# Altium schematic symbol library PCB_Project.SchLib: 14 symbols
Pins are listed as number, name and electrical type; pins without a type are passive.

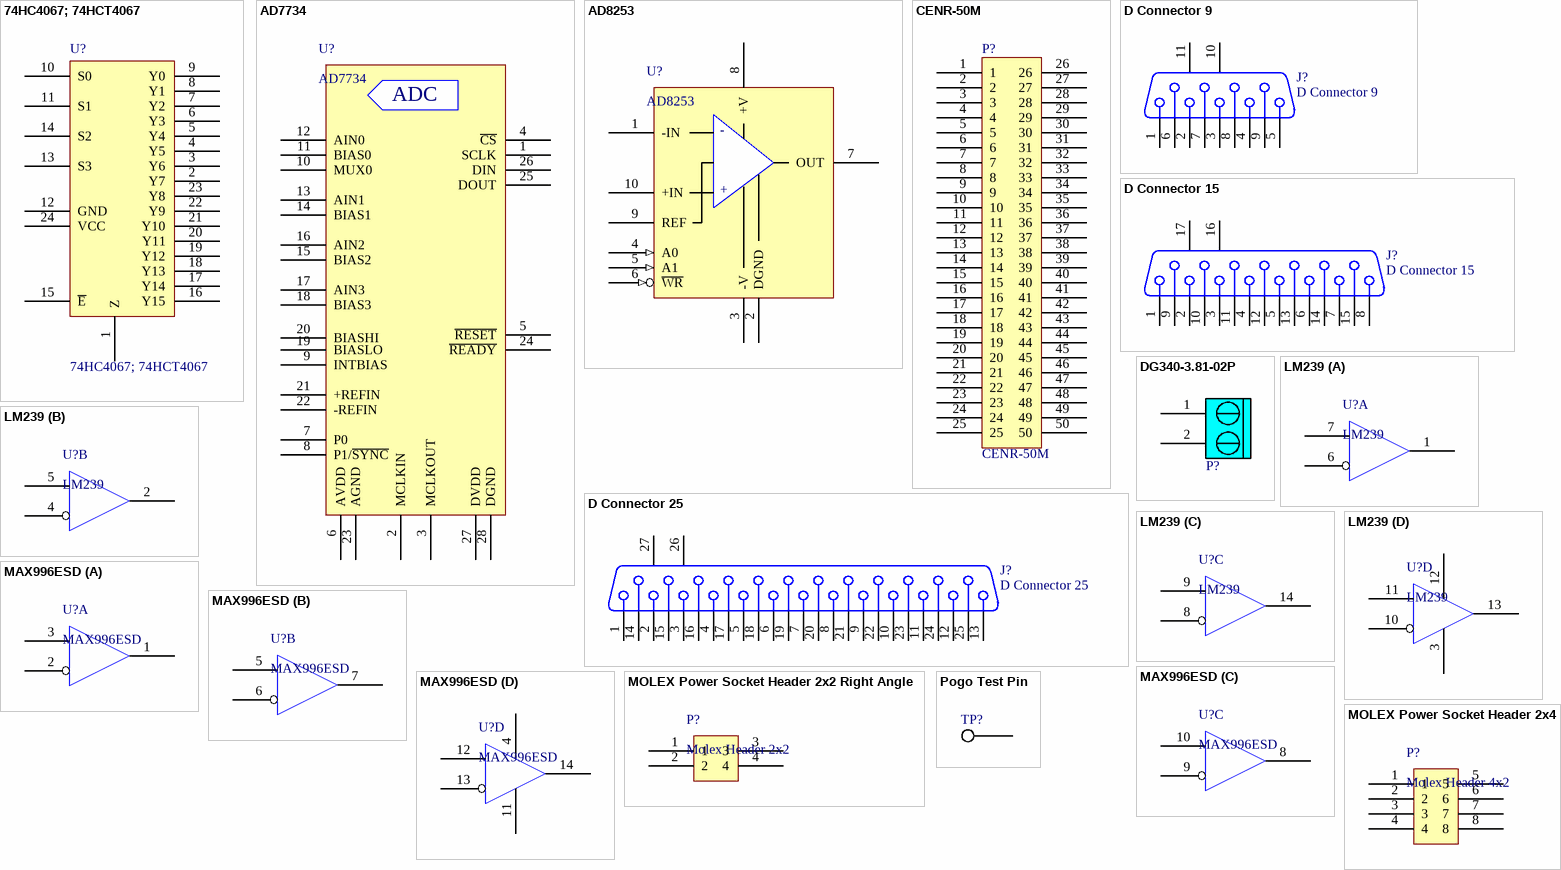
[diagram p0: symbols 74HC4067; 74HCT4067 to Pogo Test Pin]

## 74HC4067; 74HCT4067
designator U?
16-channel analog multiplexer/demultiplexer
footprint SO24 (SOT137-1, 24-Leads, Body 15,40x7,50mm, Pitch 1,27mm, IPC Medium Density)
pins: 1 Z, 2 Y7, 3 Y6, 4 Y5, 5 Y4, 6 Y3, 7 Y2, 8 Y1, 9 Y0, 10 S0, 11 S1, 12 GND, 13 S3, 14 S2, 15 ~{E}, 16 Y15, 17 Y14, 18 Y13, 19 Y12, 20 Y11, 21 Y10, 22 Y9, 23 Y8, 24 VCC

## AD7734
designator U?
4-Channel, ±10 V Input Range, High  Throughput, 24-Bit Sigma-Delta ADC
footprint TSSOP-28 (TSOP, 28-Leads, Body 9.70x4.40mm, Pitch 0.65mm, IPC High Density)
pins: 1 SCLK, 2 MCLKIN, 3 MCLKOUT, 4 ~{CS}, 5 ~{RESET}, 6 AVDD, 7 P0, 8 P1/~{SYNC}, 9 INTBIAS, 10 MUX0, 11 BIAS0, 12 AIN0, 13 AIN1, 14 BIAS1, 15 BIAS2, 16 AIN2, 17 AIN3, 18 BIAS3, 19 BIASLO, 20 BIASHI, 21 +REFIN, 22 -REFIN, 23 AGND, 24 ~{READY}, 25 DOUT, 26 DIN, 27 DVDD, 28 DGND
text: ADC

## AD8253
designator U?
Programmable Gain Instrumentation Amplifier 10MHz, 20 V/us, G=1, 10, 100, 1000
footprint MSOP-10 (MSOP-10, 10-Leads, Body 3.00x3.00mm, Pitch 0.50mm, IPC High Density)
pins: 1 -IN "True differential input", 2 DGND (power), 3 -V (power), 4 A0 (in) "True differential input", 5 A1 (in) "True differential input", 6 ~{WR} (in) "True differential input", 7 OUT "True differential input", 8 +V (power), 9 REF "True differential input", 10 +IN "True differential input"
text: -; +

## CENR-50M
designator P?
footprint CENR-50M (Centronic 50pin, PCB mount, right angle)
pins: 1, 2, 3, 4, 5, 6, 7, 8, 9, 10, 11, 12, 13, 14, 15, 16, 17, 18, 19, 20, 21, 22, 23, 24, 25, 26, 27, 28, 29, 30, 31, 32, 33, 34, 35, 36, 37, 38, 39, 40, 41, 42, 43, 44, 45, 46, 47, 48, 49, 50

## D Connector 9
designator J?
Receptacle Assembly, 9 Position, Right Angle; PackageDocument: O; Positions: 9; Published: 15-Jun-2001; LatestRevisionDate: 17-Jul-2002; LatestRevisionNote: Re-released for DXP Platform.; DatasheetDocument: 1-Sep-1999; PackageReference: 788750; Publisher: Altium Limited; Orientation: Right Angle; Gender: Receptacle
signal-integrity model Connector
footprint DSUB1.385-2H9F (Connector; D Subminiature; 9 Position; Right Angle; Pitch 1.385 mm)
footprint DSUB1.385-2H9M (Connector; D Subminiature; 9 Position; Right Angle; Pitch 1.385 mm)
pins: 1, 2, 3, 4, 5, 6, 7, 8, 9, 10 MH1, 11 MH2

## D Connector 15
designator J?
Receptacle Assembly, 15 Position, Right Angle; PackageDocument: O; Positions: 15; Published: 15-Jun-2001; LatestRevisionDate: 17-Jul-2002; LatestRevisionNote: Re-released for DXP Platform.; DatasheetDocument: 1-Sep-99; PackageReference: 788757; Publisher: Altium Limited; Orientation: Right Angle; Gender: Receptacle
signal-integrity model Connector
footprint DSUB1.385-2H15F (Connector; D Subminiature; 15 Position; Right Angle; Pitch 1.385 mm)
footprint DSUB1.385-2H15M (Connector; D Subminiature; 15 Position; Right Angle; Pitch 1.385 mm)
pins: 1, 2, 3, 4, 5, 6, 7, 8, 9, 10, 11, 12, 13, 14, 15, 16 MH1, 17 MH2

## D Connector 25
designator J?
Receptacle Assembly, 25 Position, Right Angle; PackageDocument: U; Positions: 25; Published: 15-Jun-2001; LatestRevisionDate: 17-Jul-2002; LatestRevisionNote: Re-released for DXP Platform.; DatasheetDocument: 19-Mar-1999; PackageReference: 787202; Publisher: Altium Limited; Orientation: Right Angle; Gender: Receptacle
signal-integrity model Connector
footprint DSUB1.385-2H25A-F (Connector; D Subminiature; 25 Position; Right Angle; Pitch 1.385 mm)
footprint DSUB1.385-2H25A-M (Connector; D Subminiature; 25 Position; Right Angle; Pitch 1.385 mm)
pins: 1, 2, 3, 4, 5, 6, 7, 8, 9, 10, 11, 12, 13, 14, 15, 16, 17, 18, 19, 20, 21, 22, 23, 24, 25, 26 MH1, 27 MH2

## DG340-3.81-02P
designator P?, comment DG340-3.81  (value not drawn)
Terminal block
footprint DG340-3.81-02P-00A(H) (Terminal block)
footprint DG340-5.08 (Bread board)
pins: 1, 2

## LM239
designator U?
Quad Differential Comparators
footprint SOIC-14 (SOIC, 14-Leads, Body 8.61x3.90mm, Pitch 1.27mm, IPC Medium Density)
part A pins: 1 OUT1, 6 -IN1, 7 +IN1
part B pins: 2 OUT2, 4 -IN2, 5 +IN2
part C pins: 8 -IN3, 9 +IN3, 14 OUT3
part D pins: 3 VCC (power), 10 -IN4, 11 +IN4, 12 GND (power), 13 OUT3

## MAX996ESD
designator U?
High-Speed, Micropower, Low-Voltage,  Rail-to-Rail I/O Comparators
footprint SOIC-14 (SOIC, 14-Leads, Body 8.61x3.90mm, Pitch 1.27mm, IPC Medium Density)
part A pins: 1 OUT1, 2 -IN1, 3 +IN1
part B pins: 5 +IN1, 6 -IN1, 7 OUT1
part C pins: 8 OUT1, 9 -IN1, 10 +IN1
part D pins: 4 VCC, 11 VSS, 12 +IN1, 13 -IN1, 14 OUT1

## MOLEX Power Socket Header 2x2 Right Angle
designator P?, comment Molex Header 2x2
Power Header 2x2, Right Angle
footprint MF-4FMA (Molex Power Socket Header 2x2pin Right Angle)
pins: 1, 2, 3, 4

## MOLEX Power Socket Header 2x4
designator P?, comment Molex Header 4x2
Power Header 4x2, Right Angle
footprint MF-8FMA (Molex Power Socket Header 2x4pin Right Angle)
pins: 1, 2, 3, 4, 5, 6, 7, 8

## Pogo Test Pin
designator TP?, comment Test point  (value not drawn)
pins: 1

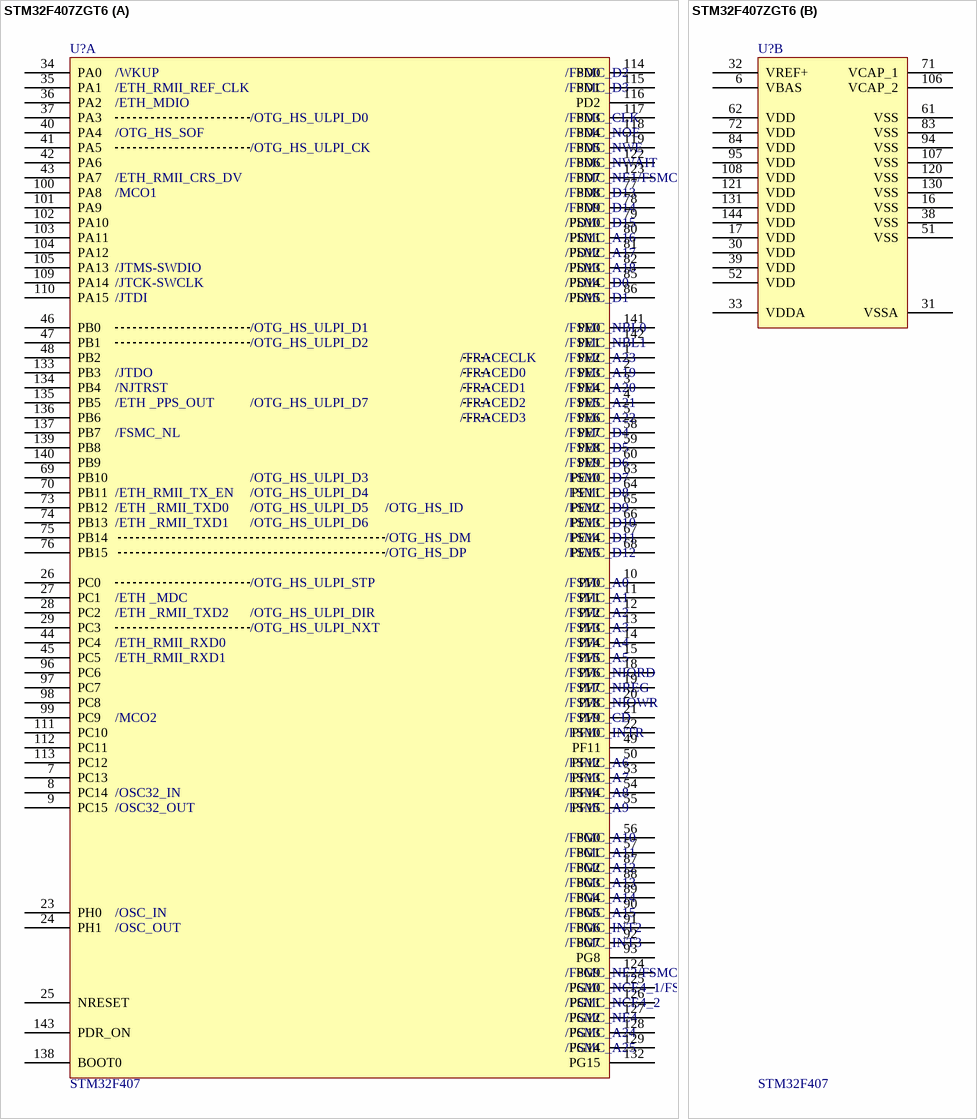
[diagram p1: symbol STM32F407ZGT6]

## STM32F407ZGT6
designator U?, comment STM32F407
ST Microcontroller ARM 32-bit Cortex M4
footprint LQFP144 (TSQFP, 144-Leads, Body 20.00x20.00mm, Pitch 0.50mm, IPC Medium Density)
part A pins: 1 PE2, 2 PE3, 3 PE4, 4 PE5, 5 PE6, 7 PC13, 8 PC14, 9 PC15, 10 PF0, 11 PF1, 12 PF2, 13 PF3, 14 PF4, 15 PF5, 18 PF6, 19 PF7, 20 PF8, 21 PF9, 22 PF10, 23 PH0, 24 PH1, 25 NRESET, 26 PC0, 27 PC1, 28 PC2, 29 PC3, 34 PA0, 35 PA1, 36 PA2, 37 PA3, 40 PA4, 41 PA5, 42 PA6, 43 PA7, 44 PC4, 45 PC5, 46 PB0, 47 PB1, 48 PB2, 49 PF11, 50 PF12, 53 PF13, 54 PF14, 55 PF15, 56 PG0, 57 PG1, 58 PE7, 59 PE8, 60 PE9, 63 PE10, 64 PE11, 65 PE12, 66 PE13, 67 PE14, 68 PE15, 69 PB10, 70 PB11, 73 PB12, 74 PB13, 75 PB14, 76 PB15, 77 PD8, 78 PD9, 79 PD10, 80 PD11, 81 PD12, 82 PD13, 85 PD14, 86 PD15, 87 PG2, 88 PG3, 89 PG4, 90 PG5, 91 PG6, 92 PG7, 93 PG8, 96 PC6, 97 PC7, 98 PC8, 99 PC9, 100 PA8, 101 PA9, 102 PA10, 103 PA11, 104 PA12, 105 PA13, 109 PA14, 110 PA15, 111 PC10, 112 PC11, 113 PC12, 114 PD0, 115 PD1, 116 PD2, 117 PD3, 118 PD4, 119 PD5, 122 PD6, 123 PD7, 124 PG9, 125 PG10, 126 PG11, 127 PG12, 128 PG13, 129 PG14, 132 PG15, 133 PB3, 134 PB4, 135 PB5, 136 PB6, 137 PB7, 138 BOOT0, 139 PB8, 140 PB9, 141 PE0, 142 PE1, 143 PDR_ON
part B pins: 6 VBAS, 16 VSS, 17 VDD, 30 VDD, 31 VSSA, 32 VREF+, 33 VDDA, 38 VSS, 39 VDD, 51 VSS, 52 VDD, 61 VSS, 62 VDD, 71 VCAP_1, 72 VDD, 83 VSS, 84 VDD, 94 VSS, 95 VDD, 106 VCAP_2, 107 VSS, 108 VDD, 120 VSS, 121 VDD, 130 VSS, 131 VDD, 144 VDD
part A text: /WKUP; /FSMC_D2; /ETH_RMII_REF_CLK; /FSMC_D3; /ETH_MDIO; /OTG_HS_ULPI_D0; /FSMC_CLK; /OTG_HS_SOF; /FSMC_NOE; /OTG_HS_ULPI_CK; /FSMC_NWE; /FSMC_NWAIT; /ETH_RMII_CRS_DV; /FSMC_NE1/FSMC_NCE2; /MCO1; /FSMC_D13; /FSMC_D14; /FSMC_D15; /FSMC_A16; /FSMC_A17; /JTMS-SWDIO; /FSMC_A18; /JTCK-SWCLK; /FSMC_D0; /JTDI; /FSMC_D1; /OTG_HS_ULPI_D1; /FSMC_NBL0; /OTG_HS_ULPI_D2; /FSMC_NBL1; /TRACECLK; /FSMC_A23; /JTDO; /TRACED0; /FSMC_A19; /NJTRST; /TRACED1; /FSMC_A20; /ETH _PPS_OUT; /OTG_HS_ULPI_D7; /TRACED2; /FSMC_A21; /TRACED3; /FSMC_A22; /FSMC_NL; /FSMC_D4; /FSMC_D5; /FSMC_D6; /OTG_HS_ULPI_D3; /FSMC_D7; /ETH_RMII_TX_EN; /OTG_HS_ULPI_D4; /FSMC_D8; /ETH _RMII_TXD0; /OTG_HS_ULPI_D5; /OTG_HS_ID; /FSMC_D9; /ETH _RMII_TXD1; /OTG_HS_ULPI_D6; /FSMC_D10; /OTG_HS_DM; /FSMC_D11; /OTG_HS_DP; /FSMC_D12; /OTG_HS_ULPI_STP; /FSMC_A0; /ETH _MDC; /FSMC_A1; /ETH _RMII_TXD2; /OTG_HS_ULPI_DIR; /FSMC_A2; /OTG_HS_ULPI_NXT; /FSMC_A3; /ETH_RMII_RXD0; /FSMC_A4; /ETH_RMII_RXD1; /FSMC_A5; /FSMC_NIORD; /FSMC_NREG; /FSMC_NIOWR; /MCO2; /FSMC_CD; /FSMC_INTR; /FSMC_A6; /FSMC_A7; /OSC32_IN; /FSMC_A8; /OSC32_OUT; /FSMC_A9; /FSMC_A10; /FSMC_A11; /FSMC_A12; /FSMC_A13; /FSMC_A14; /OSC_IN; /FSMC_A15; /OSC_OUT; /FSMC_INT2; /FSMC_INT3; /FSMC_NE2/FSMC_NCE3; /FSMC_NCE4_1/FSMC_NE3; /FSMC_NCE4_2; /FSMC_NE4; /FSMC_A24; /FSMC_A25